# EAGLE library part FTDI_FT234XD (library Strutz Electronic Industries)
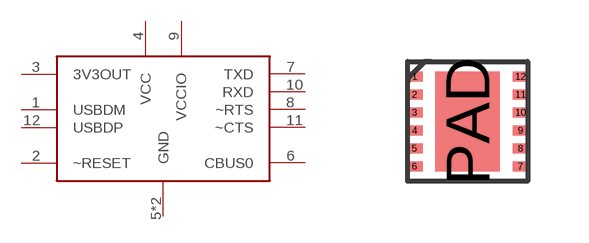
[diagram p30: symbol with the pads of DFN12-3X3; footprint DFN12-3X3]

Designator prefix -

## FTDI_FT234XD  [DFN12-3X3]
1  USBDM
2  ~RESET
3  3V3OUT
4  VCC
5  GND
6  CBUS0
7  TXD
8  ~RTS
9  VCCIO
10  RXD
11  ~CTS
12  USBDP
PAD  GND

## Footprint DFN12-3X3 (pad centres in mm)
smd 0.4 x 0.25: 1 -1.325,1.125; 2 -1.325,0.675; 3 -1.325,0.225; 4 -1.325,-0.225; 5 -1.325,-0.675; 6 -1.325,-1.125; 7 1.325,-1.125; 8 1.325,-0.675; 9 1.325,-0.225; 10 1.325,0.225; 11 1.325,0.675; 12 1.325,1.125
smd 1.6 x 2.5: PAD 0,0